# Altium schematic symbol library RF.Mixers.SchLib: 2 symbols
Pins are listed as number, name and electrical type; pins without a type are passive.

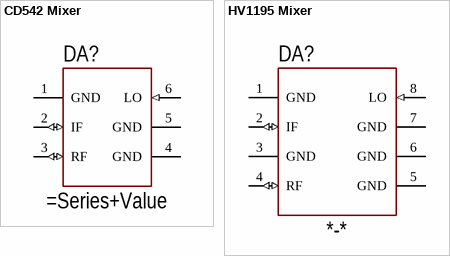
[diagram p0: symbols CD542 Mixer to HV1195 Mixer]

## CD542 Mixer
designator DA?
Frequency Mixer, CD542 Package
pins: 1 GND, 2 IF (io), 3 RF (io), 4 GND, 5 GND, 6 LO (in)

## HV1195 Mixer
designator DA?, comment *-*
Frequency Mixer, HV1195 Package; Series: *; Value: *
footprint HV1195 (Mini-Circuits HV1195 Case. 5.08x4.57mm, 8 Leads)
pins: 1 GND, 2 IF (io), 3 GND, 4 RF (io), 5 GND, 6 GND, 7 GND, 8 LO (in)